# Altium footprint library 二极管.PcbLib: 21 footprints (part 2 of 2)
Each footprint in its own frame and in the unit in brackets; x right, y up, seen from the top. Pads: shape width x height; smd on the part's side, far side on the other; paste and mask are expansions set on the pad; w line width, h text height; cw(c..) or ccw(c..) is an arc to the next point about the centre after c.
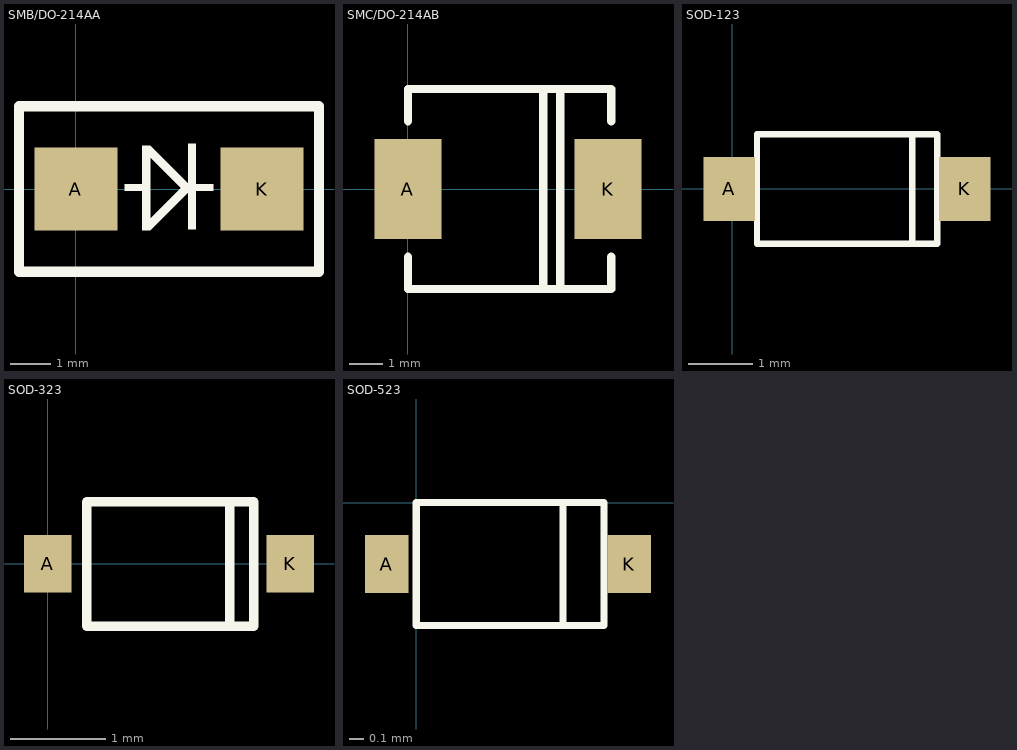
[diagram p1: the footprints below, top view; thin cyan lines are the x and y axes]

## SMB/DO-214AA [mil] "塑封二极管"
pads (2):
  rect 80x80 smd: A(0,0) K(180,0)
Top Overlay:
  region: 133,-2 133,5 114,5 114,-2
  region: 105.57,-3.58 111.58,2.42 72,42 65.99,35.99
  region: 65,-2 65,5 47,5 47,-2
  rectangle: 108.5,-39 116,44
  rectangle: 64,-40 72,42
  region: 111.61,-0.46 105.61,5.55 66.03,-34.03 72.04,-40.04
  lines w10: -55,-80 -55,80 235,80 235,-80 -55,-80
3D body "DO-214AA.STEP": height 98.43, standoff 0, extent -20.24,-78.54 200.24,75

## SMC/DO-214AB [mm] "塑封二极管"
pads (2):
  rect 2x3 smd: A(0,0) K(6,0)
Top Overlay:
  lines w0.254: 0,-2.032 0,-3 6.096,-3 6.096,-2.032 ; 0,2.032 0,3 6.096,3 6.096,2.032 ; 4.064,-3 4.064,3 ; 4.572,-3 4.572,3
3D body "DO-214AB.STEP": height 2.7, standoff 0, extent -1.012,-3.1 7.108,3.1

## SOD-123 [mm] "塑封二极管"
pads (2):
  rect 0.8x1 smd: A(-0.051,0) K(3.607,0)
Top Overlay:
  lines w0.1: 2.794,-0.85 2.794,0.85 ; 0.381,-0.85 0.381,0.85 3.181,0.85 3.181,-0.85 0.381,-0.85
3D body "SOD-123_DiodesInc.STEP": height 1.43, standoff -0.02, extent -0.122,-0.889 3.728,0.811

## SOD-323 [mm] "塑封二极管"
pads (2):
  rect 0.5x0.6 smd: A(0,0) K(2.54,0)
Top Overlay:
  lines w0.1: 1.905,-0.651 1.905,0.649 ; 0.409,-0.651 0.409,0.649 2.159,0.649 2.159,-0.649 2.157,-0.651 0.409,-0.651
3D body "SOD323.STEP": height 0.9, standoff -0.09, extent 0.02,-0.635 2.52,0.615

## SOD-523 [mm] "塑封二极管"
pads (2):
  rect 0.3x0.4 smd: A(-0.203,-0.425) K(1.473,-0.425)
Top Overlay:
  lines w0.05: 1.016,-0.85 1.016,0 ; 0,-0.85 1.3,-0.85 1.3,0 0,0 0,-0.85
3D body "SOD-523.STEP": height 0.65, standoff 0, extent -0.165,-0.832 1.435,-0.032